# Altium footprint library CDCV304.PcbLib: 3 footprints
Each footprint in its own frame and in the unit in brackets; x right, y up, seen from the top. Pads: shape width x height; smd on the part's side, far side on the other; paste and mask are expansions set on the pad; w line width, h text height; cw(c..) or ccw(c..) is an arc to the next point about the centre after c.
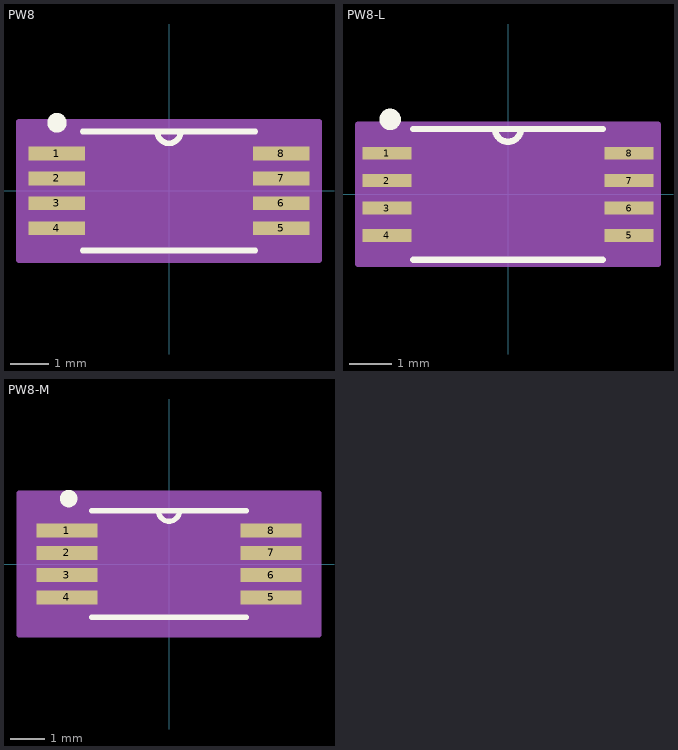
[diagram p0: the footprints below, top view; thin cyan lines are the x and y axes]

## PW8 [mil]
pads (8):
  rect 58x14 smd: 1(-115,38.39) 2(-115,12.8) 3(-115,-12.8) 4(-115,-38.39) 5(115,-38.39) 6(115,-12.8) 7(115,12.8) 8(115,38.39)
Top Overlay:
  circle w10: c-115,70 r5
  lines w6: -88.5,-61 88.5,-61 ; -88.5,61 88.5,61 ; -12,61 ccw(c0,61) 12,61
Mechanical 13:
  lines w0: -12,61 ccw(c0,61) 12,61
Mechanical 15:
  region: 154,-71 -154,-71 -154,71 154,71
  lines w6: -154,-71 154,-71 154,71 -154,71 -154,-71
3D body "PW8.stp": height 47.1, standoff 0, extent -130,-61 130,61

## PW8-L [mil]
pads (8):
  rect 46x12 smd: 1(-113,38.39) 2(-113,12.8) 3(-113,-12.8) 4(-113,-38.39) 5(113,-38.39) 6(113,-12.8) 7(113,12.8) 8(113,38.39)
Top Overlay:
  circle w10: c-110,70 r5
  lines w6: -88.5,-61 88.5,-61 ; -88.5,61 88.5,61 ; -12,61 ccw(c0,61) 12,61
Mechanical 13:
  lines w0: -12,61 ccw(c0,61) 12,61
Mechanical 15:
  region: 140,-65 -140,-65 -140,65 140,65
  lines w6: -140,-65 -140,65 140,65 140,-65 -140,-65
3D body "PW8-L.stp": height 47.1, standoff 0, extent -130,-61 130,61

## PW8-M [mil]
pads (8):
  rect 70x16 smd: 1(-117,38.39) 2(-117,12.8) 3(-117,-12.8) 4(-117,-38.39) 5(117,-38.39) 6(117,-12.8) 7(117,12.8) 8(117,38.39)
Top Overlay:
  circle w10: c-115,75 r5
  lines w6: -88.5,-61 88.5,-61 ; -88.5,61 88.5,61 ; -12,61 ccw(c0,61) 12,61
Mechanical 13:
  lines w0: -12,61 ccw(c0,61) 12,61
Mechanical 15:
  region: 172,-81 -172,-81 -172,81 172,81
  lines w6: -172,-81 172,-81 172,81 -172,81 -172,-81
3D body "PW8-M.stp": height 47.1, standoff 0, extent -130,-61 130,61